# Altium schematic symbol library SCH - POWER - LINEAR VREG - TI TPS7A5401-Q1RGR.SchLib: 1 symbol
Pins are listed as number, name and electrical type; pins without a type are passive.

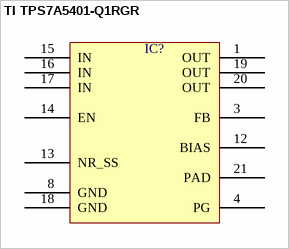
[diagram p0: symbol TI TPS7A5401-Q1RGR]

## TI TPS7A5401-Q1RGR
designator IC?  (value not drawn)
pins: 1 OUT, 3 FB, 4 PG, 8 GND, 12 BIAS, 13 NR_SS, 14 EN, 15 IN, 16 IN, 17 IN, 18 GND, 19 OUT, 20 OUT, 21 PAD